# EAGLE library part 1554КП2 (library std-logic-1554series)
АЕЯР.431200.182-11 ТУ 1554КП2 - Два селектора-мультиплексора 4-1. Изготовитель: ОАО "ИНТЕГРАЛ", г. Минск, р. Беларусь. Технические условия (ТБМ): АЕЯР.431200.182-11 ТУ Технические условия (не ТБМ): АЕЯР.431200.093-06 ТУ
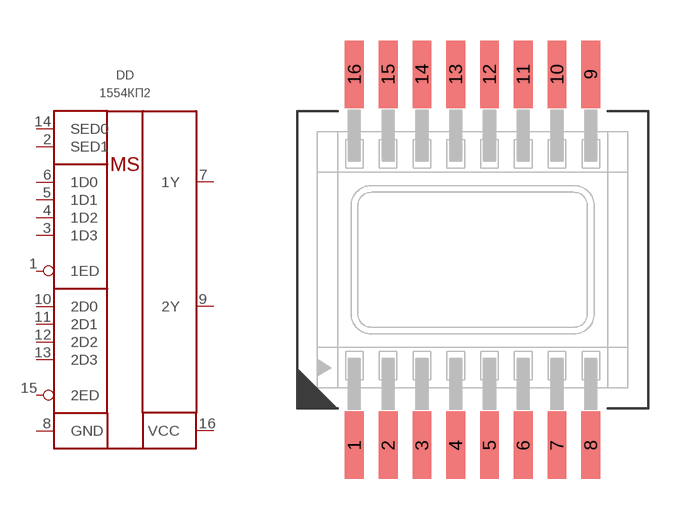
[diagram p44: symbol with the pads of 402.16-32; footprint 402.16-32]

Designator prefix DD

## 1554КП2ТБМ  [402.16-32]
1  1ED  in
2  SED1  in
3  1D3  in
4  1D2  in
5  1D1  in
6  1D0  in
7  1Y  out
8  GND  pwr
9  2Y  out
10  2D0  in
11  2D1  in
12  2D2  in
13  2D3  in
14  SED0  in
15  2ED  in
16  VCC  pwr

## Footprint 402.16-32 (pad centres in mm)
smd 0.7 x 2.5: 1 -4.375,-6.875; 2 -3.125,-6.875; 3 -1.875,-6.875; 4 -0.625,-6.875; 5 0.625,-6.875; 6 1.875,-6.875; 7 3.125,-6.875; 8 4.375,-6.875; 9 4.375,6.875; 10 3.125,6.875; 11 1.875,6.875; 12 0.625,6.875; 13 -0.625,6.875; 14 -1.875,6.875; 15 -3.125,6.875; 16 -4.375,6.875